# EAGLE library part ATTINY13 (library #PaJa_30)
ATMEL ATtiny 13
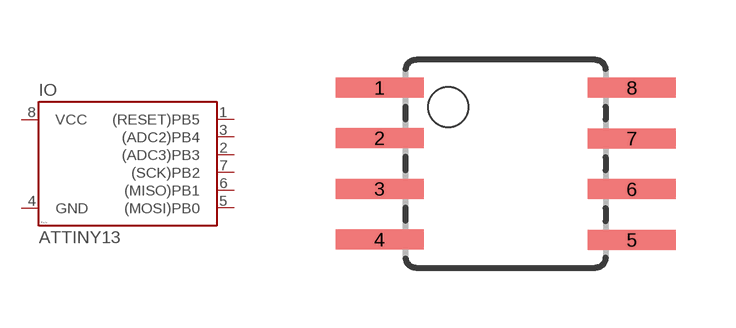
[diagram p66: symbol with the pads of SOIC08; footprint SOIC08]

Designator prefix IO

## ATTINY13  [SOIC08]
1  (RESET)PB5
2  (ADC3)PB3
3  (ADC2)PB4
4  GND  pwr
5  (MOSI)PB0
6  (MISO)PB1
7  (SCK)PB2
8  VCC  pwr

## Footprint SOIC08 (pad centres in mm)
smd 2.2 x 0.5: 1 -3.154,1.905; 2 -3.154,0.645; 3 -3.154,-0.625; 4 -3.154,-1.895; 5 3.154,-1.905; 6 3.154,-0.635; 7 3.154,0.635; 8 3.154,1.905